# Altium footprint library axsem_testpad_v1-5.PCBLIB: 10 footprints
Each footprint in its own frame and in the unit in brackets; x right, y up, seen from the top. Pads: shape width x height; smd on the part's side, far side on the other; paste and mask are expansions set on the pad; w line width, h text height; cw(c..) or ccw(c..) is an arc to the next point about the centre after c.
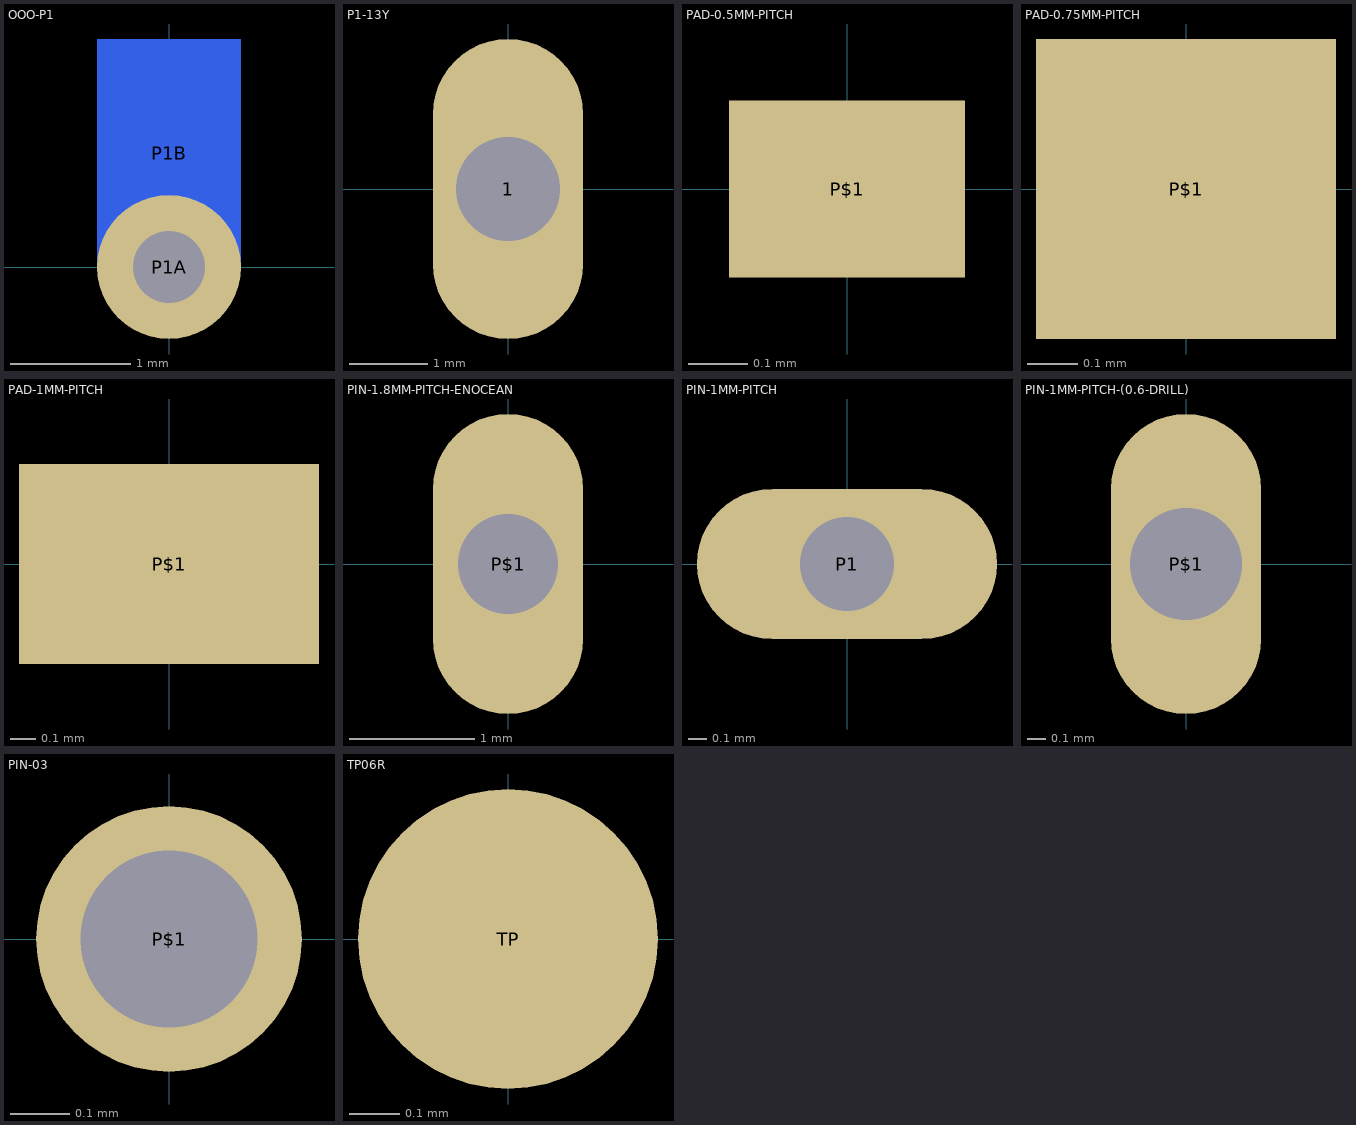
[diagram p0: the footprints below, top view; thin cyan lines are the x and y axes]

## OOO-P1 [mm]
pads (2):
  round 1.2 hole 0.6: P1A(0,0)
  rect 1.2x1.9 smd far side: P1B(0,0.95)

## P1-13Y [mil]
pads (1):
  oval 75x150 hole 52: 1(0,0)
Mechanical 16:
  circle w6: c0,0 r30
  rectangle: -13,-13 13,13

## PAD-0.5MM-PITCH [mm]
pads (1):
  rect 0.4x0.3 smd: P$1(0,0)

## PAD-0.75MM-PITCH [mm]
pads (1):
  rect 0.6x0.6 smd: P$1(0,0)

## PAD-1MM-PITCH [mil]
pads (1):
  rect 47.24x31.5 smd: P$1(0,0)

## PIN-1.8MM-PITCH-ENOCEAN [mil]
pads (1):
  oval 47.25x94.5 hole 31.5: P$1(0,0)

## PIN-1MM-PITCH [mil]
pads (1):
  oval 63x31.5 hole 19.69: P1(0,0)

## PIN-1MM-PITCH-(0.6-DRILL) [mil]
pads (1):
  oval 31.5x63 hole 23.62: P$1(0,0)

## PIN-03 [mm]
pads (1):
  round 0.45 hole 0.3: P$1(0,0)

## TP06R [mm]
pads (1):
  rrect100% 0.6x0.6 smd: TP(0,0)